# EAGLE library part MC10135 (library ecl)
Dual J-K Master Slave Flip-Flop
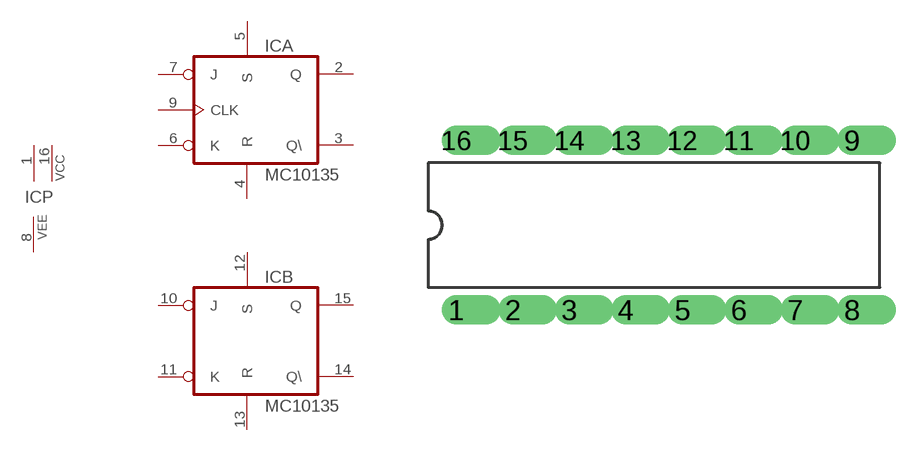
[diagram p4: symbol with the pads of DIL16; footprint DIL16]

Designator prefix IC; gates P=2VCC1VEE A=MC10135 A1=CLK B=MC10135

## MC10135  [DIL16]
1  P:VCC  pwr
2  A:Q  out
3  A:Q\  out
4  A:R  in
5  A:S  in
6  A:K  in
7  A:J  in
8  P:VEE  pwr
9  A1:CLK  in
10  B:J  in
11  B:K  in
12  B:S  in
13  B:R  in
14  B:Q\  out
15  B:Q  out
16  P:VCC  pwr

## Footprint DIL16 (pad centres in mm)
drill 0.813 offset: 1 -8.89,-3.81; 2 -6.35,-3.81; 3 -3.81,-3.81; 4 -1.27,-3.81; 5 1.27,-3.81; 6 3.81,-3.81; 7 6.35,-3.81; 8 8.89,-3.81; 9 8.89,3.81; 10 6.35,3.81; 11 3.81,3.81; 12 1.27,3.81; 13 -1.27,3.81; 14 -3.81,3.81; 15 -6.35,3.81; 16 -8.89,3.81